# Altium footprint library LPEDT_Parts.PcbLib: 9 footprints
Each footprint in its own frame and in the unit in brackets; x right, y up, seen from the top. Pads: shape width x height; smd on the part's side, far side on the other; paste and mask are expansions set on the pad; w line width, h text height; cw(c..) or ccw(c..) is an arc to the next point about the centre after c.
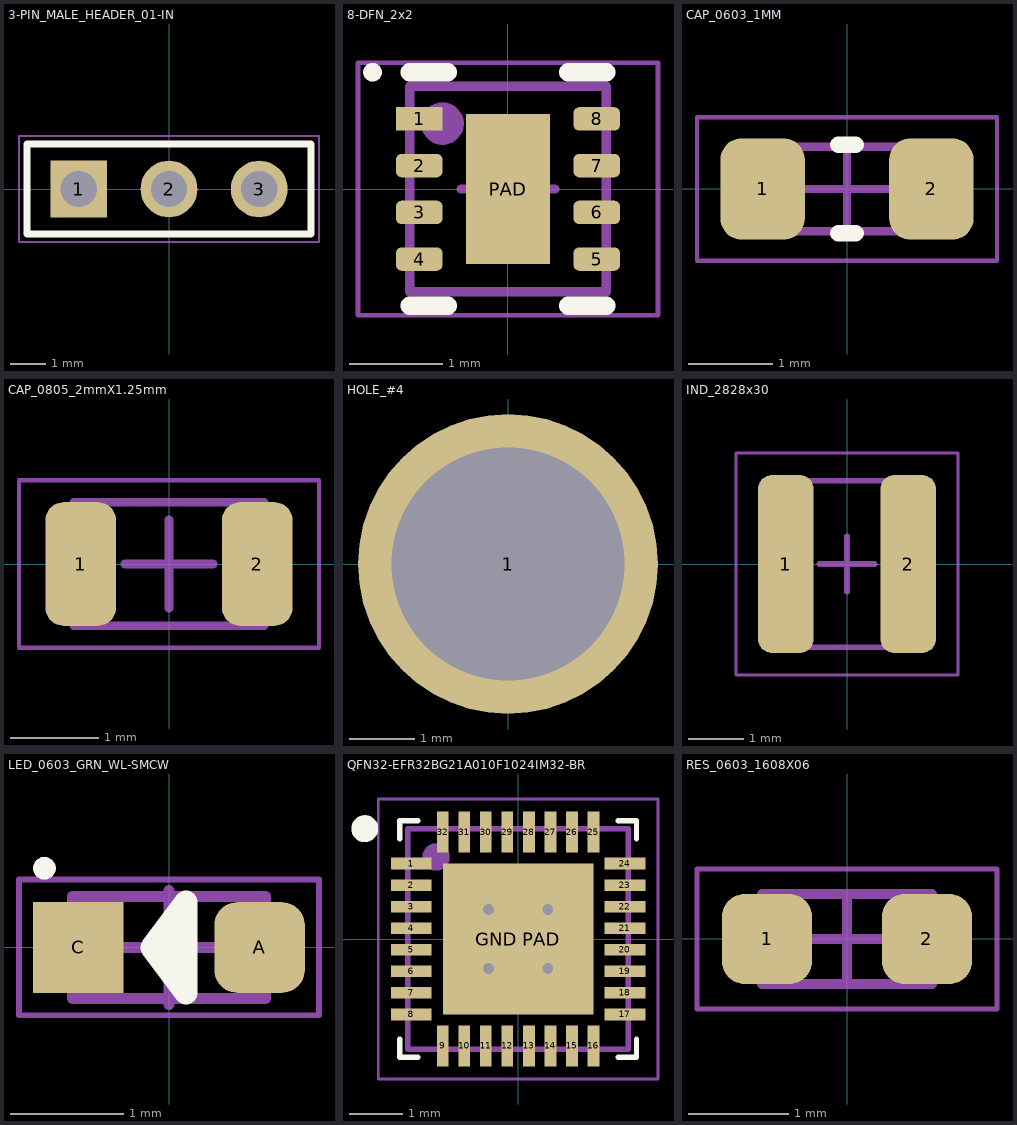
[diagram p0: the footprints below, top view; thin cyan lines are the x and y axes]

## 3-PIN_MALE_HEADER_01-IN [mm] ".025 SQ Post Terminal Strip Assembly, 1x3 Pins, Vertical, 2.54mm Pitch, Male"
height 8.58
pads (3):
  rect 1.6x1.6 hole 1.02: 1(-2.54,0)
  round 1.6 hole 1.02: 2(0,0) 3(2.54,0)
Top Overlay:
  lines w0.2: -4,-1.27 -4,1.27 4,1.27 4,-1.27 -4,-1.27
Mechanical 13:
  lines w0.1: -4,-1.27 -4,1.27 4,1.27 4,-1.27 -4,-1.27
  text ".Designator" at -1.524,-0.635 h1.3
Mechanical 15:
  lines w0.05: -4.225,-1.495 -4.225,1.495 4.225,1.495 4.225,-1.495 -4.225,-1.495
  lines w0.1: -0.5,0 0.5,0 ; 0,-0.5 0,0.5
3D body "User Library-Header_Male_3Pin.STEP": height 8.54, standoff -3, extent -3.81,-1.27 3.81,1.22

## 8-DFN_2x2 [mm] "DFN, 8-Leads, Body 2.05x2.00mm, Pitch 0.50mm, Thermal Pad 1.60x0.69mm, IPC Medium Density"
height 0.8
pads (9):
  rect 0.5x0.25 smd mask+0.07: 1(-0.95,0.75)
  rrect50% 0.5x0.25 smd mask+0.07: 2(-0.95,0.25) 3(-0.95,-0.25) 4(-0.95,-0.75) 5(0.95,-0.75) 6(0.95,-0.25) 7(0.95,0.25) 8(0.95,0.75)
  rect 0.9x1.6 smd paste-1 mask+0.07: PAD(0,0)
Top Overlay:
  circle w0.1: c-1.45,1.25 r0.05
  lines w0.2: -1.05,-1.25 -0.645,-1.25 ; -1.05,1.25 -0.645,1.25 ; 0.645,-1.25 1.05,-1.25 ; 0.645,1.25 1.05,1.25
Top Paste:
  rectangle: -0.45,0.1 0.45,0.8
  rectangle: -0.45,-0.8 0.45,-0.1
Mechanical 13:
  circle w0.254: c-0.7,0.7 r0.1
  lines w0.1: -1.05,-1.1 1.05,-1.1 1.05,1.1 -1.05,1.1 -1.05,-1.1
  text ".Designator" at -0.88,-0.563 h0.65
Mechanical 15:
  lines w0.05: -1.605,-1.35 1.605,-1.35 1.605,1.35 -1.605,1.35 -1.605,-1.35
  lines w0.1: -0.5,0 0.5,0 ; 0,-0.5 0,0.5
3D body: height 0.8, standoff 0, extent -1.05,-1.1 1.05,1.1

## CAP_0603_1MM [mm] "Chip Capacitor, 2-Leads, Body 1.60x0.80mm, IPC Medium Density"
height 1
pads (2):
  rrect50% 1x1.2 smd: 1(-1,0) 2(1,0)
Top Overlay:
  lines w0.2: -0.1,-0.525 0.1,-0.525 ; -0.1,0.525 0.1,0.525
Mechanical 13:
  lines w0.1: -0.9,-0.5 -0.9,0.5 0.9,0.5 0.9,-0.5 -0.9,-0.5
  text ".Designator" at -0.723,-0.254 h0.5
Mechanical 15:
  lines w0.05: -1.778,-0.85 -1.778,0.85 1.778,0.85 1.778,-0.85 -1.778,-0.85
  lines w0.1: -0.5,0 0.5,0 ; 0,-0.5 0,0.5
3D body "CAP_0603_1608X10.step": height 1, standoff 0, extent -0.9,-0.5 0.9,0.5

## CAP_0805_2mmX1.25mm [mm]
height 1.4
pads (2):
  rrect50% 0.8x1.4 smd: 1(-1,0) 2(1,0)
Mechanical 13:
  lines w0.1: -1.075,-0.7 -1.075,0.7 1.075,0.7 1.075,-0.7 -1.075,-0.7
  text ".Designator" at -0.82,-0.42 h0.9
Mechanical 15:
  lines w0.05: -1.7,-0.95 -1.7,0.95 1.7,0.95 1.7,-0.95 -1.7,-0.95
  lines w0.1: -0.5,0 0.5,0 ; 0,-0.5 0,0.5
3D body "GRM21BR61E106KA73K.step": height 1.23, standoff -0.02, extent -1,-0.7 1,0.7

## HOLE_#4 [mil]
pads (1):
  round 180 hole 140: 1(0,0)

## IND_2828x30 [mm] "Precision Wire Wound Inductor, 2-Leads, Body 2.80x2.80mm, IPC Medium Density"
height 3
pads (2):
  rrect50% 1x3.2 smd: 1(-1.1,0) 2(1.1,0)
Mechanical 13:
  lines w0.1: -1.5,-1.5 1.5,-1.5 1.5,1.5 -1.5,1.5 -1.5,-1.5
  text ".Designator" at -1.12,-1.02 h0.9
Mechanical 15:
  lines w0.05: -2,-2 -2,2 2,2 2,-2 -2,-2
  lines w0.1: -0.5,0 0.5,0 ; 0,-0.5 0,0.5
3D body "744025001_Download_STP_WE-TPC-2828_rev1.stp": height 2.8, standoff 0, extent -1.4,-1.4 1.4,1.4

## LED_0603_GRN_WL-SMCW [mm] "SODFL, 2-Leads, Body 0.80x1.80mm, IPC Medium Density"
height 0.8
pads (2):
  rrect50% 0.8x0.8 smd: A(0.8,0)
  rect 0.8x0.8 smd: C(-0.8,0)
Top Overlay:
  circle w0.1: c-1.1,0.7 r0.05
  lines w0.2: -0.15,0 0.05,0
  lines w0.205: -0.15,0 0.15,-0.4 0.15,0.4 -0.15,0
Mechanical 13:
  lines w0.1: -0.85,-0.45 -0.85,0.45 0.85,0.45 0.85,-0.45 -0.85,-0.45
  text ".Designator" at -0.723,-0.254 h0.5
Mechanical 15:
  lines w0.05: -1.325,-0.6 -1.325,0.6 1.325,0.6 1.325,-0.6 -1.325,-0.6
  lines w0.1: -0.5,0 0.5,0 ; 0,-0.5 0,0.5
3D body "LED_0603_WURTH_WL-SMCW_lens.step": height 0.71, standoff 0.31, extent -0.55,-0.4 0.55,0.4
3D body "LED_0603_WURTH_WL-SMCW_base.step": height 0.65, standoff 0.01, extent -0.8,-0.4 0.8,0.4

## QFN32-EFR32BG21A010F1024IM32-BR [mm] "QFN, 32-Leads, Body 4.00x4.00mm, Pitch 0.40mm, Thermal Pad 2.80x2.80mm, IPC Medium Density"
height 0.9
pads (33):
  rect 0.76x0.22 smd mask+0.06: 1(-1.985,1.4) 2(-1.985,1) 3(-1.985,0.6) 4(-1.985,0.2) 5(-1.985,-0.2) 6(-1.985,-0.6) 7(-1.985,-1) 8(-1.985,-1.4) 17(1.985,-1.4) 18(1.985,-1) 19(1.985,-0.6) 20(1.985,-0.2) 21(1.985,0.2) 22(1.985,0.6) 23(1.985,1) 24(1.985,1.4)
  rect 0.22x0.76 smd mask+0.06: 9(-1.4,-1.985) 10(-1,-1.985) 11(-0.6,-1.985) 12(-0.2,-1.985) 13(0.2,-1.985) 14(0.6,-1.985) 15(1,-1.985) 16(1.4,-1.985) 25(1.4,1.985) 26(1,1.985) 27(0.6,1.985) 28(0.2,1.985) 29(-0.2,1.985) 30(-0.6,1.985) 31(-1,1.985) 32(-1.4,1.985)
  rect 2.8x2.8 smd mask+0.06: "GND PAD"(0,0)
via 0.55,-0.55 diameter 0.5 hole 0.2
via -0.55,-0.55 diameter 0.5 hole 0.2
via 0.55,0.55 diameter 0.5 hole 0.2
via -0.55,0.55 diameter 0.5 hole 0.2
Top Overlay:
  circle w0.25: c-2.85,2.05 r0.125
  lines w0.1: -2.2,-1.86 -2.2,-2.2 -1.86,-2.2 ; -2.2,1.86 -2.2,2.2 -1.86,2.2 ; 1.86,-2.2 2.2,-2.2 2.2,-1.86 ; 1.86,2.2 2.2,2.2 2.2,1.86
Mechanical 13:
  circle w0.254: c-1.524,1.524 r0.127
  lines w0.1: -2.05,-2.05 2.05,-2.05 2.05,2.05 -2.05,2.05 -2.05,-2.05
  text ".Designator" at -1.785,-1.568 h0.65
Mechanical 15:
  lines w0.05: -2.6,-2.6 2.6,-2.6 2.6,2.6 -2.6,2.6 -2.6,-2.6
  lines w0.1: -0.5,0 0.5,0 ; 0,-0.5 0,0.5
3D body "QFN32-EFR32BG21A010F1024IM32-BR.step": height 0.9, standoff 0, extent -2.051,-2.051 2.051,2.051

## RES_0603_1608X06 [mm] "Chip Resistor, 2-Leads, Body 1.60x0.80mm, IPC Medium Density"
height 0.55
pads (2):
  rrect50% 0.9x0.9 smd: 1(-0.8,0) 2(0.8,0)
Mechanical 13:
  lines w0.1: -0.85,-0.45 -0.85,0.45 0.85,0.45 0.85,-0.45 -0.85,-0.45
  text ".Designator" at -0.635,-0.254 h0.4
Mechanical 15:
  lines w0.05: -1.5,-0.7 -1.5,0.7 1.5,0.7 1.5,-0.7 -1.5,-0.7
  lines w0.1: -0.45,0 0.45,0 ; 0,-0.45 0,0.45
3D body "0603_1608X05N.step": height 0.45, standoff 0, extent -0.775,-0.425 0.775,0.425